# Altium schematic symbol library p126bda.SchLib: 1 symbol
Pins are listed as number, name and electrical type; pins without a type are passive.

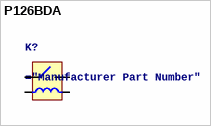
[diagram p0: symbol P126BDA]

## P126BDA
designator K?
RELAY GEN PURPOSE SPST 60A 12V
pins: 1, 2, 3, 4